# Altium footprint library Cap 0.PCBLIB: 3 footprints
Each footprint in its own frame and in the unit in brackets; x right, y up, seen from the top. Pads: shape width x height; smd on the part's side, far side on the other; paste and mask are expansions set on the pad; w line width, h text height; cw(c..) or ccw(c..) is an arc to the next point about the centre after c.
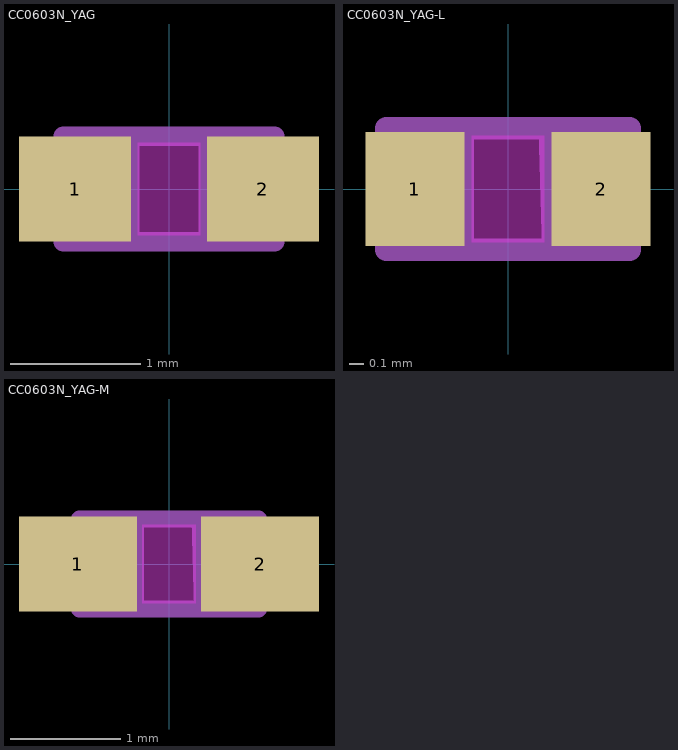
[diagram p0: the footprints below, top view; thin cyan lines are the x and y axes]

## CC0603N_YAG [mil]
pads (2):
  rect 34x32 smd: 1(-28.5,0) 2(28.5,0)
Top keep-out:
  region: -9.5,14 9.5,14 9.5,-14 -9.5,-14
tDocu:
  lines w6: -32,-16 -32,16 ; -32,-16 -12,-16 -12,16 -32,16 ; -32,-16 32,-16 ; -32,-16 -32,16 ; -32,16 32,16 ; 32,-16 12,-16 12,16 32,16 ; 32,-16 32,16 ; 32,-16 32,16

## CC0603N_YAG-L [mil]
pads (2):
  rect 26x30 smd: 1(-24.5,0) 2(24.5,0)
Top keep-out:
  region: -9.5,14 9.5,14 9.5,-14 -9.5,-14
tDocu:
  lines w6: -32,-16 -32,16 ; -32,-16 -12,-16 -12,16 -32,16 ; -32,-16 32,-16 ; -32,-16 -32,16 ; -32,16 32,16 32,-16 ; 32,-16 12,-16 11,16 31,16 32,-16

## CC0603N_YAG-M [mil]
pads (2):
  rect 42x34 smd: 1(-32.5,0) 2(32.5,0)
Top keep-out:
  region: -9.5,14 9.5,14 9.5,-14 -9.5,-14
tDocu:
  lines w6: -32,-16 -32,16 ; -32,-16 -12,-16 -12,16 -32,16 ; -32,-16 32,-16 ; -32,-16 -32,16 ; -32,16 32,16 32,-16 ; 32,-16 12,-16 11,16 31,16 32,-16